# Altium schematic symbol library 05.SCHLIB: 19 symbols
Pins are listed as number, name and electrical type; pins without a type are passive.

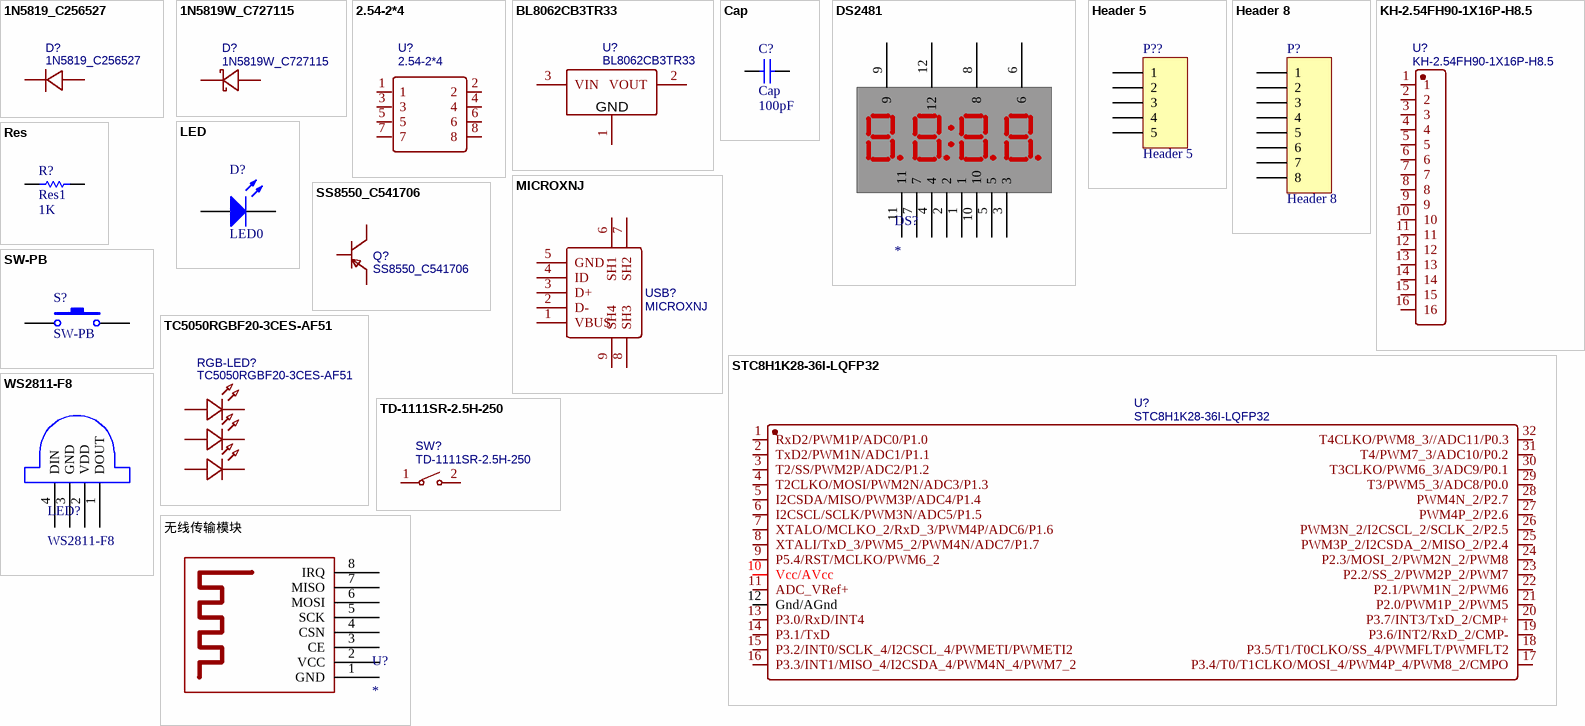
[diagram p0: symbols 1N5819_C256527 to 无线传输模块]

## 1N5819_C256527
designator D?
BOM_Manufacturer: GD; BOM_Manufacturer Part: 1N5819; Contributor: LCSC; BOM_Supplier: LCSC; BOM_Supplier Part: C256527; BOM_JLCPCB Part Class: Extended Part; spicePre: D; spiceSymbolName: 1N5819_C256527
footprint DO-41_BD2.4-L4.7-P8.70-D0.9-RD
pins: 1 K, 2 A

## 1N5819W_C727115
designator D?
BOM_Manufacturer: TWGMC; Contributor: LCSC; BOM_Supplier: LCSC; BOM_Supplier Part: C727115; BOM_Manufacturer Part: 1N5819W; BOM_JLCPCB Part Class: Extended Part; spicePre: D; spiceSymbolName: 1N5819W_C727115
footprint SOD-123_L2.8-W1.8-LS3.7-RD
pins: 1 C, 2 A

## 2.54-2*4
designator U?
BOM_Manufacturer: ZHOURI(洲日); Contributor: LCSC; BOM_Supplier: LCSC; BOM_Supplier Part: C2977588; BOM_Manufacturer Part: 2.54-2*4; link: https://atta.szlcsc.com/upload/public/pdf/source/20220328/363EB391BC0EB759CF231FC910753CBE.pdf; spicePre: U; spiceSymbolName: 2.54-2*4
footprint HDR-TH_8P-P2.54-V-F-R2-C4-S2.54
pins: 1, 2, 3, 4, 5, 6, 7, 8

## BL8062CB3TR33
designator U?
BOM_Manufacturer: BL(Shanghai Belling); Contributor: LCSC; BOM_Supplier: LCSC; BOM_Supplier Part: C692265; BOM_Manufacturer Part: BL8062CB3TR33; BOM_JLCPCB Part Class: Extended Part; spicePre: U; spiceSymbolName: BL8062CB3TR33
footprint SOT-23-3_L2.9-W1.6-P1.90-LS2.8-BR
pins: 1 GND, 2 VOUT, 3 VIN

## Cap
designator C?  value 100pF
Capacitor; Published: 8-Jun-2000; LatestRevisionDate: 17-Jul-2002; LatestRevisionNote: Re-released for DXP Platform.; PackageReference: RAD-0.3; Publisher: Altium Limited; PackageDescription: Radial Cap, Thru-Hole; 2 Leads; 0.3 in Pin Spacing
footprint C0603
pins: 1, 2

## DS2481
designator DS?
footprint DS2481 (4位数码管)
pins: 1, 2, 3, 4, 5, 6, 7, 8, 9, 10, 11, 12

## Header 5
designator P??
Header, 5-Pin; LatestRevisionDate: 17-Jul-2002; LatestRevisionNote: Re-released for DXP Platform.; Publisher: Altium Limited
footprint HDR1X5 (Connector; Header; 5 Position)
signal-integrity model Connector
pins: 1, 2, 3, 4, 5

## Header 8
designator P?
Header, 8-Pin; LatestRevisionDate: 17-Jul-2002; LatestRevisionNote: Re-released for DXP Platform.; Publisher: Altium Limited
footprint HDR1X8 (Connector; Header; 8 Position)
signal-integrity model Connector
pins: 1, 2, 3, 4, 5, 6, 7, 8

## KH-2.54FH90-1X16P-H8.5
designator U?
BOM_Manufacturer: kinghelm(金航标); Contributor: LCSC; BOM_Supplier: LCSC; BOM_Supplier Part: C2932686; BOM_Manufacturer Part: KH-2.54FH90-1X16P-H8.5; BOM_JLCPCB Part Class: Extended Part; spicePre: U; spiceSymbolName: KH-2.54FH90-1X16P-H8.5
footprint HDR-TH_16P-P2.54-V-F-B
pins: 1, 2, 3, 4, 5, 6, 7, 8, 9, 10, 11, 12, 13, 14, 15, 16

## LED
designator D?, comment LED0
Typical INFRARED GaAs LED; Published: 8-Jun-2000; LatestRevisionDate: 08-Jul-2005; LatestRevisionNote: Mech Layer 1 removed.; PackageReference: LED-0; Publisher: Altium Limited; PackageDescription: LED; 2 Leads
footprint LED0603
pins: 1 K, 2 A

## MICROXNJ
designator USB?
BOM_Manufacturer: SHOU HAN; Contributor: LCSC; BOM_Supplier: LCSC; BOM_Supplier Part: C404969; BOM_Manufacturer Part: MicroXNJ; BOM_JLCPCB Part Class: Extended Part; spicePre: U; spiceSymbolName: MICROXNJ
footprint MICRO-USB-SMD_MICROXNJ
pins: 1 VBUS, 2 D-, 3 D+, 4 ID, 5 GND, 6 SH1, 7 SH2, 8 SH3, 9 SH4

## Res
designator R?, comment Res1  value 1K
Resistor; Published: 8-Jun-2000; LatestRevisionDate: 17-Jul-2002; LatestRevisionNote: Re-released for DXP Platform.; PackageReference: AXIAL-0.3; Publisher: Altium Limited; PackageDescription: Axial Device, Thru-Hole; 2 Leads; 0.3 in Pin Spacing
footprint R0603
pins: 1, 2

## SS8550_C541706
designator Q?
BOM_Manufacturer: AnBon; BOM_Manufacturer Part: SS8550; Contributor: LCSC; BOM_Supplier: LCSC; BOM_Supplier Part: C541706; BOM_JLCPCB Part Class: Extended Part; spicePre: Q; spiceSymbolName: SS8550_C541706
footprint SOT-23-3 (SOT-23-3_L2.9-W1.3-P1.90-LS2.4-BR)
pins: 1 B, 2 E, 3 C

## STC8H1K28-36I-LQFP32
designator U?
BOM_Manufacturer: STC Micro; Contributor: LCSC; BOM_Supplier: LCSC; BOM_Supplier Part: C914618; BOM_Manufacturer Part: STC8H1K28-36I-LQFP32; BOM_JLCPCB Part Class: Extended Part; spicePre: U; spiceSymbolName: STC8H1K28-36I-LQFP32
footprint STC8H1K28I-LQFP-32 (LQFP-32_L7.0-W7.0-P0.80-LS9.0-BL)
pins: 1 RxD2/PWM1P/ADC0/P1.0, 2 TxD2/PWM1N/ADC1/P1.1, 3 T2/SS/PWM2P/ADC2/P1.2, 4 T2CLKO/MOSI/PWM2N/ADC3/P1.3, 5 I2CSDA/MISO/PWM3P/ADC4/P1.4, 6 I2CSCL/SCLK/PWM3N/ADC5/P1.5, 7 XTALO/MCLKO_2/RxD_3/PWM4P/ADC6/P1.6, 8 XTALI/TxD_3/PWM5_2/PWM4N/ADC7/P1.7, 9 P5.4/RST/MCLKO/PWM6_2, 10 Vcc/AVcc, 11 ADC_VRef+, 12 Gnd/AGnd, 13 P3.0/RxD/INT4, 14 P3.1/TxD, 15 P3.2/INT0/SCLK_4/I2CSCL_4/PWMETI/PWMETI2, 16 P3.3/INT1/MISO_4/I2CSDA_4/PWM4N_4/PWM7_2, 17 P3.4/T0/T1CLKO/MOSI_4/PWM4P_4/PWM8_2/CMPO, 18 P3.5/T1/T0CLKO/SS_4/PWMFLT/PWMFLT2, 19 P3.6/INT2/RxD_2/CMP-, 20 P3.7/INT3/TxD_2/CMP+, 21 P2.0/PWM1P_2/PWM5, 22 P2.1/PWM1N_2/PWM6, 23 P2.2/SS_2/PWM2P_2/PWM7, 24 P2.3/MOSI_2/PWM2N_2/PWM8, 25 PWM3P_2/I2CSDA_2/MISO_2/P2.4, 26 PWM3N_2/I2CSCL_2/SCLK_2/P2.5, 27 PWM4P_2/P2.6, 28 PWM4N_2/P2.7, 29 T3/PWM5_3/ADC8/P0.0, 30 T3CLKO/PWM6_3/ADC9/P0.1, 31 T4/PWM7_3/ADC10/P0.2, 32 T4CLKO/PWM8_3//ADC11/P0.3

## SW-PB
designator S?
Switch; Published: 24-Mar-1999; LatestRevisionDate: 17-Jul-2002; LatestRevisionNote: Re-released for DXP Platform.; PackageReference: SPST-2; Publisher: Altium Limited; PackageDescription: Switch; 2 Leads
footprint SW-PB (SW-TH_4P-L6.0-W6.0-P4.50-LS6.5)
pins: 1, 2

## TC5050RGBF20-3CES-AF51
designator RGB-LED?
BOM_Manufacturer: TCWIN; Contributor: LCSC; BOM_Supplier: LCSC; BOM_Supplier Part: C784541; BOM_Manufacturer Part: TC5050RGBF20-3CES-AF51; BOM_JLCPCB Part Class: Extended Part; spicePre: L; spiceSymbolName: TC5050RGBF20-3CES-AF51
footprint LED-SMD_6P-L5.0-W5.0-FD
pins: 1 A, 2 A, 3 A, 4 K, 5 K, 6 K

## TD-1111SR-2.5H-250
designator SW?
BOM_Manufacturer: DEALON(德艺隆); Contributor: LCSC; BOM_Supplier: LCSC; BOM_Supplier Part: C2905157; BOM_Manufacturer Part: TD-1111SR-2.5H-250; spicePre: S; spiceSymbolName: TD-1111SR-2.5H-250
footprint KEY-SMD_2P-L6.0-W3.6-P7.4-LS8.0-L
pins: 1, 2

## WS2811-F8
designator LED?
footprint WS2811-F8
pins: 1 DOUT, 2 VDD, 3 GND, 4 DIN

## 无线传输模块
designator U?
footprint 无线传输
pins: 1 GND, 2 VCC, 3 CE, 4 CSN, 5 SCK, 6 MOSI, 7 MISO, 8 IRQ